# Altium schematic symbol library V23047A1021A511.SchLib: 1 symbol
Pins are listed as number, name and electrical type; pins without a type are passive.

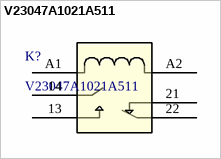
[diagram p0: symbol V23047A1021A511]

## V23047A1021A511
designator K?
V23047-A1021-A511; Manufacturer_Name: TE Connectivity; Copyright: Copyright (C) 2025 Ultra Librarian. All rights reserved.; Manufacturer_Part_Number: V23047A1021A511; Datasheet: https://www.te.com/commerce/DocumentDelivery/DDEController?Action=srchrtrv&DocNm=SR2M&DocType=Data+Sheet&DocLang=English&PartCntxt=1-1393258-2&DocFormat=pdf; RefDes: RefDes; Type: Type
footprint RELAY6_1-1393258-2_TEC
pins: 13, 14, 21, 22, A1, A2